# EAGLE library part AT27C040-70PU (library SamacSys_Parts)
AT27C040-70PU, OTP EPROM Memory 4Mbit 512K x 8 bit 70ns 4.5 5.5 V 32-Pin PDIP Source: Datasheet <https://datasheet.datasheetarchive.com/originals/distributors/Datasheets_SAMA/896a86125cfdd2abbfcbc3a7e5a5b95b.pdf>
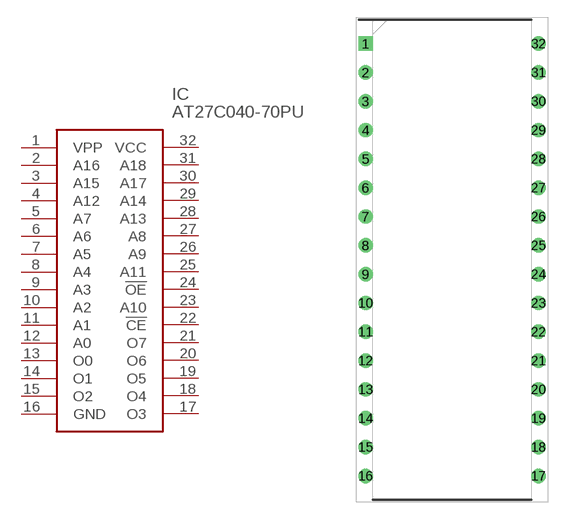
[diagram p162: symbol with the pads of DIP1524W56P254L4204H483Q32N; footprint DIP1524W56P254L4204H483Q32N]

Designator prefix IC

## AT27C040-70PU (DESCRIPTION: AT27C040-70PU, OTP EPROM Memory 4Mbit 512K x 8 bit 70ns 4.5 5.5 V 32-Pin PDIP; HEIGHT: 4.826mm; MANUFACTURER_NAME: Microchip; MANUFACTURER_PART_NUMBER: AT27C040-70PU; MOUSER_PART_NUMBER: 556-AT27C04070PU; MOUSER_PRICE-STOCK: https://www.mouser.co.uk/ProductDetail/Microchip-Technology-Atmel/AT27C040-70PU?qs=lURXKZrvvXdfU1rfB2oRWw%3D%3D)  [DIP1524W56P254L4204H483Q32N]
1  VPP
2  A16
3  A15
4  A12
5  A7
6  A6
7  A5
8  A4
9  A3
10  A2
11  A1
12  A0
13  O0
14  O1
15  O2
16  GND
17  O3
18  O4
19  O5
20  O6
21  O7
22  !CE
23  A10
24  !OE
25  A11
26  A9
27  A8
28  A13
29  A14
30  A17
31  A18
32  VCC

## Footprint DIP1524W56P254L4204H483Q32N (pad centres in mm)
32P6_1
drill 0.758 pad 1.158 square: 1 -7.62,19.05
drill 0.758 pad 1.158: 2 -7.62,16.51; 3 -7.62,13.97; 4 -7.62,11.43; 5 -7.62,8.89; 6 -7.62,6.35; 7 -7.62,3.81; 8 -7.62,1.27; 9 -7.62,-1.27; 10 -7.62,-3.81; 11 -7.62,-6.35; 12 -7.62,-8.89; 13 -7.62,-11.43; 14 -7.62,-13.97; 15 -7.62,-16.51; 16 -7.62,-19.05; 17 7.62,-19.05; 18 7.62,-16.51; 19 7.62,-13.97; 20 7.62,-11.43; 21 7.62,-8.89; 22 7.62,-6.35; 23 7.62,-3.81; 24 7.62,-1.27; 25 7.62,1.27; 26 7.62,3.81; 27 7.62,6.35; 28 7.62,8.89; 29 7.62,11.43; 30 7.62,13.97; 31 7.62,16.51; 32 7.62,19.05